# EAGLE library part MC9S08JM16-32 (library freescale-hcs08)
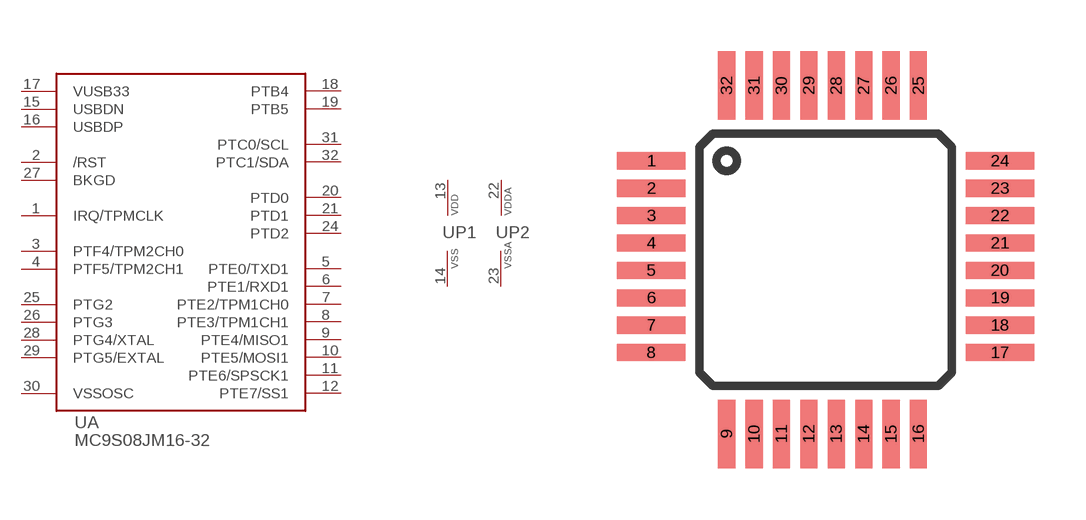
[diagram p16: symbol with the pads of LQFP32; footprint LQFP32]

Designator prefix -; gates A=MC9S08JM16-32 P1=VDD-VSS P2=VDDA-VSSA

## MC9S08JM16-32CLC  [LQFP32]
1  A:IRQ/TPMCLK
2  A:/RST
3  A:PTF4/TPM2CH0
4  A:PTF5/TPM2CH1
5  A:PTE0/TXD1
6  A:PTE1/RXD1
7  A:PTE2/TPM1CH0
8  A:PTE3/TPM1CH1
9  A:PTE4/MISO1
10  A:PTE5/MOSI1
11  A:PTE6/SPSCK1
12  A:PTE7/SS1
13  P1:VDD  pwr
14  P1:VSS  pwr
15  A:USBDN
16  A:USBDP
17  A:VUSB33
18  A:PTB4
19  A:PTB5
20  A:PTD0
21  A:PTD1
22  P2:VDDA  pwr
23  P2:VSSA  pwr
24  A:PTD2
25  A:PTG2
26  A:PTG3
27  A:BKGD
28  A:PTG4/XTAL
29  A:PTG5/EXTAL
30  A:VSSOSC
31  A:PTC0/SCL
32  A:PTC1/SDA

## Footprint LQFP32 (pad centres in mm)
smd 2 x 0.5: 1 -6.2,4; 2 -6.2,3.2; 3 -6.2,2.4; 4 -6.2,1.6; 5 -6.2,0.8; 6 -6.2,0; 7 -6.2,-0.8; 8 -6.2,-1.6; 17 3.978,-1.6; 18 3.978,-0.8; 19 3.978,0; 20 3.978,0.8; 21 3.978,1.6; 22 3.978,2.4; 23 3.978,3.2; 24 3.978,4
smd 0.5 x 2: 9 -4,-3.978; 10 -3.2,-3.978; 11 -2.4,-3.978; 12 -1.6,-3.978; 13 -0.8,-3.978; 14 0,-3.978; 15 0.8,-3.978; 16 1.6,-3.978; 25 1.6,6.2; 26 0.8,6.2; 27 0,6.2; 28 -0.8,6.2; 29 -1.6,6.2; 30 -2.4,6.2; 31 -3.2,6.2; 32 -4,6.2